# Altium schematic symbol library Resistors.SchLib: 223 symbols (part 1 of 3)
Pins are listed as number, name and electrical type; pins without a type are passive.

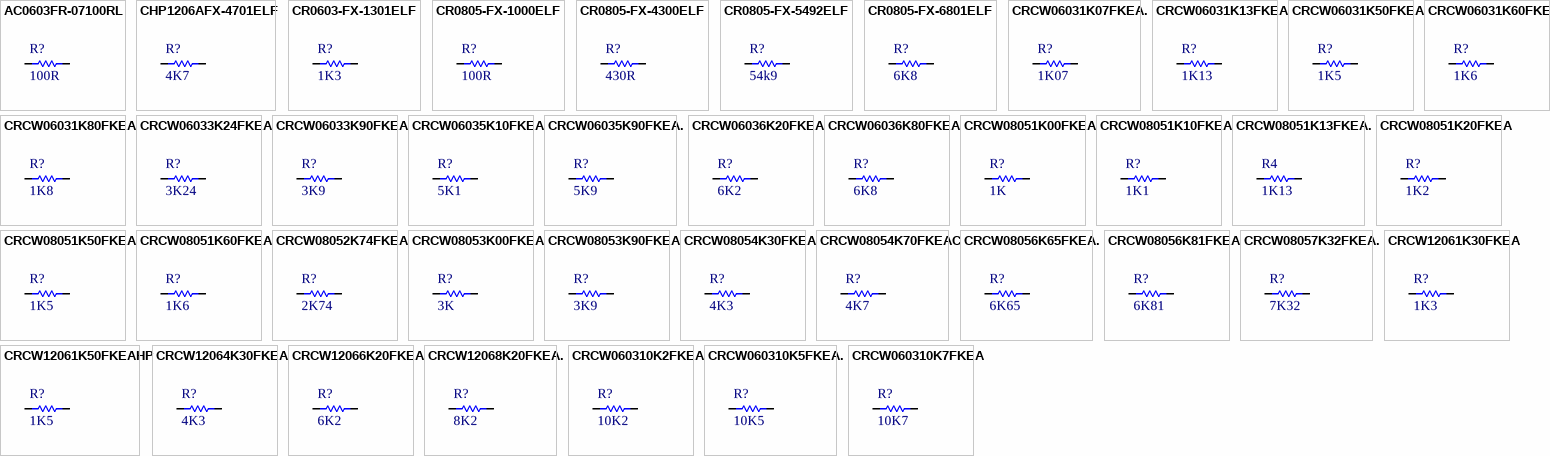
[diagram p0: symbols AC0603FR-07100RL to CRCW060310K7FKEA]

## AC0603FR-07100RL
designator R?, comment 100R
RES 100R, ±1%, 100mW, 75V, 0603 [1608 Metric], Thick Film; Manufacturer: YAGEO; Manufacturer Part Number: AC0603FR-07100RL; Temperature Coefficient: ± 100ppm/°C; Value: 100R; Supplier 1: Farnell; Supplier Part Number 1: 3495223; Tolerance: ± 1%; Power: 100mW; Voltage: 75V; Package: 0603 [1608 Metric]; Part Type: Thick Film; ComponentLink1Description: Datasheet; ComponentLink1URL: http://www.farnell.com/datasheets/3046027.pdf; Mounting: SMD
footprint RESC1608N (Chip Resistor, Body 1.6x0.8mm, IPC Medium Density)
pins: 1, 2
1 alternate drawing of the same symbol

## CHP1206AFX-4701ELF
designator R?, comment 4K7
RES 4K7, ±1%, 750mW, 250V, 1206 [3216 Metric], Thick Film; Manufacturer: Bourns; Manufacturer Part Number: CHP1206AFX-4701ELF; Temperature Coefficient: ±100 ppm/°C; Value: 4K7; Supplier 1: Mouser; Supplier Part Number 1: 652-CHP1206AFX-4701L; Tolerance: ± 1%; Power: 750mW; Voltage: 250V; Package: 1206 [3216 Metric]; Part Type: Thick Film; ComponentLink1Description: Datasheet; ComponentLink1URL: https://eu.mouser.com/datasheet/2/54/chp-a-1858677.pdf; Mounting: SMD
footprint RESC3216N (Chip Resistor, Body 3.2x1.6mm, IPC Medium Density)
pins: 1, 2
1 alternate drawing of the same symbol

## CR0603-FX-1301ELF
designator R?, comment 1K3
RES 1K3, ±1%, 100mW, 50V, 0603 [1608 Metric], Thick Film; Manufacturer: MULTICOMP; Manufacturer Part Number: CR0603-FX-1301ELF; Temperature Coefficient: ± 100ppm/°C; Value: 1K3; Supplier 1: Farnell; Supplier Part Number 1: 2908258; Tolerance: ± 1%; Power: 100mW; Voltage: 50V; Package: 0603 [1608 Metric]; Part Type: Thick Film; ComponentLink1Description: Datasheet; ComponentLink1URL: http://www.farnell.com/datasheets/2178762.pdf; Mounting: SMD
footprint RESC1608N (Chip Resistor, Body 1.6x0.8mm, IPC Medium Density)
pins: 1, 2
1 alternate drawing of the same symbol

## CR0805-FX-1000ELF
designator R?, comment 100R
RES 100R, ±1%, 125mW, 150V, 0805 [2012 Metric], Thick Film; Manufacturer: BOURNS; Manufacturer Part Number: CR0805-FX-1000ELF; Temperature Coefficient: ± 100ppm/°C; Value: 100R; Supplier 1: Farnell; Supplier Part Number 1: 2008370; Tolerance: ± 1%; Power: 125mW; Voltage: 150V; Package: 0805 [2012 Metric]; Part Type: Thick Film; ComponentLink1Description: Datasheet; ComponentLink1URL: http://www.farnell.com/datasheets/1856384.pdf; Mounting: SMD
footprint RESC2012N (Chip Resistor, Body 2.0x1.3mm, IPC Medium Density)
pins: 1, 2
1 alternate drawing of the same symbol

## CR0805-FX-4300ELF
designator R?, comment 430R
RES 430R, ±1%, 125mW, 150V, 0805 [2012 Metric], Thick Film; Manufacturer: Bourns; Manufacturer Part Number: CR0805-FX-4300ELF; Temperature Coefficient: ± 100ppm/°C; Value: 430R; Supplier 1: Mouser; Supplier Part Number 1: 652-CR0805FX-4300ELF; Tolerance: ± 1%; Power: 125mW; Voltage: 150V; Package: 0805 [2012 Metric]; Part Type: Thick Film; ComponentLink1Description: Datasheet; ComponentLink1URL: https://eu.mouser.com/datasheet/2/54/crxxxxx-1858361.pdf; Mounting: SMD
footprint RESC2012N (Chip Resistor, Body 2.0x1.3mm, IPC Medium Density)
pins: 1, 2
1 alternate drawing of the same symbol

## CR0805-FX-5492ELF
designator R?, comment 54k9
RES 54K9, ±1%, 125mW, 150V, 0805 [2012 Metric], Thick Film; Manufacturer: Bourns; Manufacturer Part Number: CR0805-FX-5492ELF; Temperature Coefficient: 100 PPM / C; Value: 54k9; Supplier 1: Mouser; Supplier Part Number 1: 652-CR0805FX-5492ELF; Tolerance: ± 1%; Power: 125mW; Voltage: 150V; Package: 0805 [2012 Metric]; Part Type: Thick Film; ComponentLink1Description: Datasheet; ComponentLink1URL: https://eu.mouser.com/datasheet/2/54/crxxxxx-1858361.pdf; Mounting: SMD
footprint RESC2012N (Chip Resistor, Body 2.0x1.3mm, IPC Medium Density)
pins: 1, 2
1 alternate drawing of the same symbol

## CR0805-FX-6801ELF
designator R?, comment 6K8
RES 6K8, ±1%, 125mW, 150V, 0805 [2012 Metric], Thick Film; Manufacturer: BOURNS; Manufacturer Part Number: CR0805-FX-6801ELF; Temperature Coefficient: ± 100ppm/°C; Value: 6K8; Supplier 1: Farnell; Supplier Part Number 1: 2908421; Tolerance: ± 1%; Power: 125mW; Voltage: 150V; Package: 0805 [2012 Metric]; Part Type: Thick Film; ComponentLink1Description: Datasheet; ComponentLink1URL: http://www.farnell.com/datasheets/2178762.pdf; Mounting: SMD
footprint RESC2012N (Chip Resistor, Body 2.0x1.3mm, IPC Medium Density)
pins: 1, 2
1 alternate drawing of the same symbol

## CRCW06031K07FKEA.
designator R?, comment 1K07
RES 1K07, ±1%, 100mW, 75V, 0603 [1608 Metric], Thick Film; Manufacturer: VISHAY; Manufacturer Part Number: CRCW06031K07FKEA.; Temperature Coefficient: ± 100ppm/K; Value: 1K07; Supplier 1: Farnell; Supplier Part Number 1: 2138352; Tolerance: ± 1%; Power: 100mW; Voltage: 75V; Package: 0603 [1608 Metric]; Part Type: Thick Film; ComponentLink1Description: Datasheet; ComponentLink1URL: http://www.farnell.com/datasheets/2310790.pdf; Mounting: SMD
footprint RESC1608N (Chip Resistor, Body 1.6x0.8mm, IPC Medium Density)
pins: 1, 2
1 alternate drawing of the same symbol

## CRCW06031K13FKEA
designator R?, comment 1K13
RES 1K13, ±1%, 100mW, 75V, 0603 [1608 Metric], Thick Film; Manufacturer: VISHAY; Manufacturer Part Number: CRCW06031K13FKEA; Temperature Coefficient: ± 100ppm/K; Value: 1K13; Supplier 1: Farnell; Supplier Part Number 1: 2138354; Tolerance: ± 1%; Power: 100mW; Voltage: 75V; Package: 0603 [1608 Metric]; Part Type: Thick Film; ComponentLink1Description: Datasheet; ComponentLink1URL: http://www.farnell.com/datasheets/2310790.pdf; Mounting: SMD
footprint RESC1608N (Chip Resistor, Body 1.6x0.8mm, IPC Medium Density)
pins: 1, 2
1 alternate drawing of the same symbol

## CRCW06031K50FKEA
designator R?, comment 1K5
RES 1K5, ±1%, 100mW, 75V, 0603 [1608 Metric], Thick Film; Manufacturer: VISHAY; Manufacturer Part Number: CRCW06031K50FKEA; Temperature Coefficient: ± 100ppm/K; Value: 1K5; Supplier 1: Farnell; Supplier Part Number 1: 1469743; Tolerance: ± 1%; Power: 100mW; Voltage: 75V; Package: 0603 [1608 Metric]; Part Type: Thick Film; ComponentLink1Description: Datasheet; ComponentLink1URL: http://www.farnell.com/datasheets/2310790.pdf; Mounting: SMD
footprint RESC1608N (Chip Resistor, Body 1.6x0.8mm, IPC Medium Density)
pins: 1, 2
1 alternate drawing of the same symbol

## CRCW06031K60FKEA
designator R?, comment 1K6
RES 1K6, ±1%, 100mW, 75V, 0603 [1608 Metric], Thick Film; Manufacturer: VISHAY; Manufacturer Part Number: CRCW06031K60FKEA.; Temperature Coefficient: ± 100ppm/K; Value: 1K6; Supplier 1: Farnell; Supplier Part Number 1: 2138367; Tolerance: ± 1%; Power: 100mW; Voltage: 75V; Package: 0603 [1608 Metric]; Part Type: Thick Film; ComponentLink1Description: Datasheet; ComponentLink1URL: http://www.farnell.com/datasheets/2310790.pdf; Mounting: SMD
footprint RESC1608N (Chip Resistor, Body 1.6x0.8mm, IPC Medium Density)
pins: 1, 2
1 alternate drawing of the same symbol

## CRCW06031K80FKEA
designator R?, comment 1K8
RES 1K8, ±1%, 100mW, 100V, 0603 [1608 Metric], Thick Film; Manufacturer: VISHAY; Manufacturer Part Number: CRCW06031K80FKEA; Voltage: 75V; Temperature Coefficient: ± 100ppm/K; Value: 1K8; Supplier 1: Farnell; Supplier Part Number 1: 1652854; Tolerance: ± 1%; Power: 100mW; Package: 0603 [1608 Metric]; Part Type: Thick Film; ComponentLink1Description: Datasheet; ComponentLink1URL: http://www.farnell.com/datasheets/2310790.pdf; Mounting: SMD
footprint RESC1608N (Chip Resistor, Body 1.6x0.8mm, IPC Medium Density)
pins: 1, 2
1 alternate drawing of the same symbol

## CRCW06033K24FKEA
designator R?, comment 3K24
RES 3K24, ±1%, 100mW, 75V, 0603 [1608 Metric], Thick Film; Manufacturer: VISHAY; Manufacturer Part Number: CRCW06033K24FKEA; Temperature Coefficient: ± 100ppm/K; Value: 3K24; Supplier 1: Farnell; Supplier Part Number 1: 1652877; Tolerance: ± 1%; Power: 100mW; Voltage: 75V; Package: 0603 [1608 Metric]; Part Type: Thick Film; ComponentLink1Description: Datasheet; ComponentLink1URL: http://www.farnell.com/datasheets/2310790.pdf; Mounting: SMD
footprint RESC1608N (Chip Resistor, Body 1.6x0.8mm, IPC Medium Density)
pins: 1, 2
1 alternate drawing of the same symbol

## CRCW06033K90FKEA
designator R?, comment 3K9
RES 3K9, ±1%, 100mW, 75V, 0603 [1608 Metric], Thick Film; Manufacturer: VISHAY; Manufacturer Part Number: CRCW06033K90FKEA; Temperature Coefficient: ± 100ppm/K; Value: 3K9; Supplier 1: Farnell; Supplier Part Number 1: 1469796; Tolerance: ± 1%; Power: 100mW; Voltage: 75V; Package: 0603 [1608 Metric]; Part Type: Thick Film; ComponentLink1Description: Datasheet; ComponentLink1URL: http://www.farnell.com/datasheets/2310790.pdf; Mounting: SMD
footprint RESC1608N (Chip Resistor, Body 1.6x0.8mm, IPC Medium Density)
pins: 1, 2
1 alternate drawing of the same symbol

## CRCW06035K10FKEA
designator R?, comment 5K1
RES 5K1, ±1%, 100mW, 75V, 0603 [1608 Metric], Thick Film; Manufacturer: VISHAY; Manufacturer Part Number: CRCW06035K10FKEA; Temperature Coefficient: ± 100ppm/K; Value: 5K1; Supplier 1: Farnell; Supplier Part Number 1: 1469819; Tolerance: ± 1%; Power: 100mW; Voltage: 75V; Package: 0603 [1608 Metric]; Part Type: Thick Film; ComponentLink1Description: Datasheet; ComponentLink1URL: http://www.farnell.com/datasheets/2310790.pdf; Mounting: SMD
footprint RESC1608N (Chip Resistor, Body 1.6x0.8mm, IPC Medium Density)
pins: 1, 2
1 alternate drawing of the same symbol

## CRCW06035K90FKEA.
designator R?, comment 5K9
RES 5K9, ±1%, 100mW, 75V, 0603 [1608 Metric], Thick Film; Manufacturer: VISHAY; Manufacturer Part Number: CRCW06035K90FKEA; Temperature Coefficient: ± 100ppm/K; Value: 5K9; Supplier 1: Farnell; Supplier Part Number 1: 2138407; Tolerance: ± 1%; Power: 100mW; Voltage: 75V; Package: 0603 [1608 Metric]; Part Type: Thick Film; ComponentLink1Description: Datasheet; ComponentLink1URL: http://www.farnell.com/datasheets/2310790.pdf; Mounting: SMD
footprint RESC1608N (Chip Resistor, Body 1.6x0.8mm, IPC Medium Density)
pins: 1, 2
1 alternate drawing of the same symbol

## CRCW06036K20FKEA
designator R?, comment 6K2
RES 6K2, ±1%, 100mW, 75V, 0603 [1608 Metric], Thick Film; Manufacturer: VISHAY; Manufacturer Part Number: CRCW06036K20FKEA; Temperature Coefficient: ± 100ppm/K; Value: 6K2; Supplier 1: Farnell; Supplier Part Number 1: 2138408; Tolerance: ± 1%; Power: 100mW; Voltage: 75V; Package: 0603 [1608 Metric]; Part Type: Thick Film; ComponentLink1Description: Datasheet; ComponentLink1URL: http://www.farnell.com/datasheets/2310790.pdf; Mounting: SMD
footprint RESC1608N (Chip Resistor, Body 1.6x0.8mm, IPC Medium Density)
pins: 1, 2
1 alternate drawing of the same symbol

## CRCW06036K80FKEA
designator R?, comment 6K8
RES 6K8, ±1%, 100mW, 75V, 0603 [1608 Metric], Thick Film; Manufacturer: VISHAY; Manufacturer Part Number: CRCW06036K80FKEA; Temperature Coefficient: ± 100ppm/K; Value: 6K8; Supplier 1: Farnell; Supplier Part Number 1: 1469831; Tolerance: ± 1%; Power: 100mW; Voltage: 75V; Package: 0603 [1608 Metric]; Part Type: Thick Film; ComponentLink1Description: Datasheet; ComponentLink1URL: http://www.farnell.com/datasheets/2310790.pdf; Mounting: SMD
footprint RESC1608N (Chip Resistor, Body 1.6x0.8mm, IPC Medium Density)
pins: 1, 2
1 alternate drawing of the same symbol

## CRCW08051K00FKEA
designator R?, comment 1K
RES 1K, ±1%, 125mW, 150V, 0805 [2012 Metric], Thick Film; Manufacturer: VISHAY; Manufacturer Part Number: CRCW08051K00FKEA; Temperature Coefficient: ± 100ppm/K; Value: 1K; Supplier 1: Farnell; Supplier Part Number 1: 1469847; Tolerance: ± 1%; Power: 125mW; Voltage: 150V; Package: 0805 [2012 Metric]; Part Type: Thick Film; ComponentLink1Description: Datasheet; ComponentLink1URL: http://www.farnell.com/datasheets/2310790.pdf; Mounting: SMD
footprint RESC2012N (Chip Resistor, Body 2.0x1.3mm, IPC Medium Density)
pins: 1, 2
1 alternate drawing of the same symbol

## CRCW08051K10FKEA
designator R?, comment 1K1
RES 1K1, ±1%, 125mW, 150V, 0805 [2012 Metric], Thick Film; Manufacturer: VISHAY; Manufacturer Part Number: CRCW08051K10FKEA; Temperature Coefficient: ± 100ppm/K; Value: 1K1; Supplier 1: Farnell; Supplier Part Number 1: 1469849; Tolerance: ± 1%; Power: 125mW; Voltage: 150V; Package: 0805 [2012 Metric]; Part Type: Thick Film; ComponentLink1Description: Datasheet; ComponentLink1URL: http://www.farnell.com/datasheets/2310790.pdf; Mounting: SMD
footprint RESC2012N (Chip Resistor, Body 2.0x1.3mm, IPC Medium Density)
pins: 1, 2
1 alternate drawing of the same symbol

## CRCW08051K13FKEA.
designator R4, comment 1K13
RES 1K13, ±1%, 125mW, 150V, 0805 [2012 Metric], Thick Film; Manufacturer: VISHAY; Manufacturer Part Number: CRCW08051K13FKEA.; Temperature Coefficient: ± 100ppm/K; Value: 1K13; Supplier 1: Farnell; Supplier Part Number 1: 2138926; Tollerance: ± 1%; Power: 125mW; Voltage: 150V; Package: 0805 [2012 Metric]; Part Type: Thick Film; ComponentLink1Description: Datasheet; ComponentLink1URL: https://lt.farnell.com/vishay/crcw08051k13fkea/res-1k13-1-0-125w-0805-thick-film/dp/2138926?st=res%201.13k,%20±1%25,%20125mw,%20150v,%200805%20[2012%20metric],%20thick%20film; Mounting: SMD
footprint RESC2012N (Chip Resistor, Body 2.0x1.3mm, IPC Medium Density)
pins: 1, 2
1 alternate drawing of the same symbol

## CRCW08051K20FKEA
designator R?, comment 1K2
RES 1K2, ±1%, 125mW, 150V, 0805 [2012 Metric], Thick Film; Manufacturer: VISHAY; Manufacturer Part Number: CRCW08051K20FKEA; Temperature Coefficient: ± 100ppm/K; Value: 1K2; Supplier 1: Farnell; Supplier Part Number 1: 1469851; Tollerance: ± 1%; Power: 125mW; Voltage: 150V; Package: 0805 [2012 Metric]; Part Type: Thick Film; ComponentLink1Description: Datasheet; ComponentLink1URL: https://lt.farnell.com/vishay/crcw08051k20fkea/res-1k2-1-0-125w-0805-thick-film/dp/1469851?st=1.2k; Mounting: SMD
footprint RESC2012N (Chip Resistor, Body 2.0x1.3mm, IPC Medium Density)
pins: 1, 2
1 alternate drawing of the same symbol

## CRCW08051K50FKEA
designator R?, comment 1K5
RES 1K5, ±1%, 125mW, 150V, 0805 [2012 Metric], Thick Film; Manufacturer: VISHAY; Manufacturer Part Number: CRCW08051K50FKEA; Temperature Coefficient: ± 100ppm/K; Value: 1K5; Supplier 1: Farnell; Supplier Part Number 1: 1652940; Tolerance: ± 1%; Power: 125mW; Voltage: 150V; Package: 0805 [2012 Metric]; Part Type: Thick Film; ComponentLink1Description: Datasheet; ComponentLink1URL: http://www.farnell.com/datasheets/2310790.pdf; Mounting: SMD
footprint RESC2012N (Chip Resistor, Body 2.0x1.3mm, IPC Medium Density)
pins: 1, 2
1 alternate drawing of the same symbol

## CRCW08051K60FKEA
designator R?, comment 1K6
RES 1K6, ±1%, 125mW, 150V, 0805 [2012 Metric], Thick Film; Manufacturer: VISHAY; Manufacturer Part Number: CRCW08051K60FKA; Temperature Coefficient: ± 100ppm/K; Value: 1K6; Supplier 1: Farnell; Supplier Part Number 1: 2138937; Tolerance: ± 1%; Power: 125mW; Voltage: 150V; Package: 0805 [2012 Metric]; Part Type: Thick Film; ComponentLink1Description: Datasheet; ComponentLink1URL: http://www.farnell.com/datasheets/2310790.pdf; Mounting: SMD
footprint RESC2012N (Chip Resistor, Body 2.0x1.3mm, IPC Medium Density)
pins: 1, 2
1 alternate drawing of the same symbol

## CRCW08052K74FKEA
designator R?, comment 2K74
RES 2K74, ±1%, 125mW, 150V, 0805 [2012 Metric], Thick Film; Manufacturer: VISHAY; Manufacturer Part Number: CRCW08052K74FKEA; Temperature Coefficient: ± 100ppm/K; Value: 2K74; Supplier 1: Farnell; Supplier Part Number 1: 1469892; Tolerance: ± 1%; Power: 125mW; Voltage: 150V; Package: 0805 [2012 Metric]; Part Type: Thick Film; ComponentLink1Description: Datasheet; ComponentLink1URL: http://www.farnell.com/datasheets/2310790.pdf; Mounting: SMD
footprint RESC2012N (Chip Resistor, Body 2.0x1.3mm, IPC Medium Density)
pins: 1, 2
1 alternate drawing of the same symbol

## CRCW08053K00FKEA
designator R?, comment 3K
RES 3K, ±1%, 125mW, 150V, 0805 [2012 Metric], Thick Film; Manufacturer: VISHAY; Manufacturer Part Number: CRCW08053K00FKEA; Temperature Coefficient: ± 100ppm/K; Value: 3K; Supplier 1: Farnell; Supplier Part Number 1: 1469908; Tolerance: ± 1%; Power: 125mW; Voltage: 150V; Package: 0805 [2012 Metric]; Part Type: Thick Film; ComponentLink1Description: Datasheet; ComponentLink1URL: http://www.farnell.com/datasheets/2310790.pdf; Mounting: SMD
footprint RESC2012N (Chip Resistor, Body 2.0x1.3mm, IPC Medium Density)
pins: 1, 2
1 alternate drawing of the same symbol

## CRCW08053K90FKEA
designator R?, comment 3K9
RES 3K9, ±1%, 125mW, 150V, 0805 [2012 Metric], Thick Film; Manufacturer: VISHAY; Manufacturer Part Number: CRCW08053K90FKEA; Temperature Coefficient: ± 100ppm/K; Value: 3K9; Supplier 1: Farnell; Supplier Part Number 1: 1652998; Tolerance: ± 1%; Power: 125mW; Voltage: 150V; Package: 0805 [2012 Metric]; Part Type: Thick Film; ComponentLink1Description: Datasheet; ComponentLink1URL: http://www.farnell.com/datasheets/2310790.pdf; Mounting: SMD
footprint RESC2012N (Chip Resistor, Body 2.0x1.3mm, IPC Medium Density)
pins: 1, 2
1 alternate drawing of the same symbol

## CRCW08054K30FKEA
designator R?, comment 4K3
RES 4K3, ±1%, 125mW, 150V, 0805 [2012 Metric], Thick Film; Manufacturer: VISHAY; Manufacturer Part Number: CRCW08054K30FKEA; Temperature Coefficient: ± 100ppm/K; Value: 4K3; Supplier 1: Farnell; Supplier Part Number 1: 2138959; Tolerance: ± 1%; Power: 125mW; Voltage: 150V; Package: 0805 [2012 Metric]; Part Type: Thick Film; ComponentLink1Description: Datasheet; ComponentLink1URL: http://www.farnell.com/datasheets/2310790.pdf; Mounting: SMD
footprint RESC2012N (Chip Resistor, Body 2.0x1.3mm, IPC Medium Density)
pins: 1, 2
1 alternate drawing of the same symbol

## CRCW08054K70FKEAC
designator R?, comment 4K7
RES 4K7, ±1%, 125mW, 150V, 0805 [2012 Metric], Thick Film; Manufacturer: Vishay / Dale; Manufacturer Part Number: CRCW08054K70FKEAC; Temperature Coefficient: ±100 ppm/K; Value: 4K7; Supplier 1: Mouser; Supplier Part Number 1: 71-CRCW08054K70FKEAC; Tolerance: ± 1%; Power: 125mW; Voltage: 150V; Package: 0805 [2012 Metric]; Part Type: Thick Film; ComponentLink1Description: Datasheet; ComponentLink1URL: https://eu.mouser.com/datasheet/2/427/crcwce3-1762584.pdf; Mounting: SMD
footprint RESC2012N (Chip Resistor, Body 2.0x1.3mm, IPC Medium Density)
pins: 1, 2
1 alternate drawing of the same symbol

## CRCW08056K65FKEA.
designator R?, comment 6K65
RES 6K65, ±1%, 125mW, 150V, 0805 [2012 Metric], Thick Film; Manufacturer: VISHAY; Manufacturer Part Number: CRCW08056K65FKEA.; Temperature Coefficient: ± 100ppm/K; Value: 6K65; Supplier 1: Farnell; Supplier Part Number 1: 2138965; Tolerance: ± 1%; Power: 125mW; Voltage: 150V; Package: 0805 [2012 Metric]; Part Type: Thick Film; ComponentLink1Description: Datasheet; ComponentLink1URL: http://www.farnell.com/datasheets/2310790.pdf; Mounting: SMD
footprint RESC2012N (Chip Resistor, Body 2.0x1.3mm, IPC Medium Density)
pins: 1, 2
1 alternate drawing of the same symbol

## CRCW08056K81FKEA
designator R?, comment 6K81
RES 6K81, ±1%, 125mW, 150V, 0805 [2012 Metric], Thick Film; Manufacturer: VISHAY; Manufacturer Part Number: CRCW08056K81FKEA; Temperature Coefficient: 100ppm/K; Value: 6K81; Supplier 1: Farnell; Supplier Part Number 1: 1469950; Tollerance: 1%; Power: 125mW; Voltage: 150V; Package: 0805 [2012 Metric]; Part Type: Thick Film; ComponentLink1Description: Datasheet; ComponentLink1URL: https://lt.farnell.com/vishay/crcw08056k81fkea/res-6k81-1-0-125w-0805-thick-film/dp/1469950?st=res%206k81,%20±1%25,%20125mw,%20150v,%200805%20[2012%20metric],%20thick%20film; Mounting: SMD
footprint RESC2012N (Chip Resistor, Body 2.0x1.3mm, IPC Medium Density)
pins: 1, 2
1 alternate drawing of the same symbol

## CRCW08057K32FKEA.
designator R?, comment 7K32
RES 7K320, ±1%, 125mW, 150V, 0805 [2012 Metric], Thick Film; Manufacturer: VISHAY; Manufacturer Part Number: CRCW08057K32FKEA.; Temperature Coefficient: ± 100ppm/K; Value: 7K32; Supplier 1: Farnell; Supplier Part Number 1: 2138968; Tollerance: ± 1%; Power: 125mW; Voltage: 150V; Package: 0805 [2012 Metric]; Part Type: Thick Film; ComponentLink1Description: Datasheet; ComponentLink1URL: http://www.farnell.com/datasheets/2310790.pdf; Mounting: SMD
footprint RESC2012N (Chip Resistor, Body 2.0x1.3mm, IPC Medium Density)
pins: 1, 2
1 alternate drawing of the same symbol

## CRCW12061K30FKEA
designator R?, comment 1K3
RES 1K3, ±1%, 250mW, 200V, 1206 [3216 Metric], Thick Film; Manufacturer: MULTICOMP; Manufacturer Part Number: CRCW12061K30FKEA; Temperature Coefficient: ± 100ppm/K; Value: 1K3; Supplier 1: Farnell; Supplier Part Number 1: 1653079; Tolerance: ± 1%; Power: 250mW; Voltage: 200V; Package: 1206 [3216 Metric]; Part Type: Thick Film; ComponentLink1Description: Datasheet; ComponentLink1URL: http://www.farnell.com/datasheets/2310790.pdf; Mounting: SMD
footprint RESC3216N (Chip Resistor, Body 3.2x1.6mm, IPC Medium Density)
pins: 1, 2
1 alternate drawing of the same symbol

## CRCW12061K50FKEAHP
designator R?, comment 1K5
RES 1K5, ±1%, 750mW, 200V, 1206 [3216 Metric], Thick Film; Manufacturer: VISHAY; Manufacturer Part Number: CRCW12061K50FKEAHP; Power: 250mW; Temperature Coefficient: ± 100ppm/K; Value: 1K5; Supplier 1: Farnell; Supplier Part Number 1: 1739015; Tolerance: ± 1%; Voltage: 200V; Package: 1206 [3216 Metric]; Part Type: Thick Film; ComponentLink1Description: Datasheet; ComponentLink1URL: http://www.farnell.com/datasheets/2884039.pdf; Mounting: SMD
footprint RESC3216N (Chip Resistor, Body 3.2x1.6mm, IPC Medium Density)
pins: 1, 2
1 alternate drawing of the same symbol

## CRCW12064K30FKEA
designator R?, comment 4K3
RES 4K3, ±1%, 250mW, 200V, 1206 [3216 Metric], Thick Film; Manufacturer: VISHAY; Manufacturer Part Number: CRCW12064K30FKEA; Temperature Coefficient: ± 100ppm/K; Value: 4K3; Supplier 1: Farnell; Supplier Part Number 1: 1653140; Tolerance: ± 1%; Power: 250mW; Voltage: 200V; Package: 1206 [3216 Metric]; Part Type: Thick Film; ComponentLink1Description: Datasheet; ComponentLink1URL: http://www.farnell.com/datasheets/2310790.pdf; Mounting: SMD
footprint RESC3216N (Chip Resistor, Body 3.2x1.6mm, IPC Medium Density)
pins: 1, 2
1 alternate drawing of the same symbol

## CRCW12066K20FKEA
designator R?, comment 6K2
RES 6K2, ±1%, 250mW, 200V, 1206 [3216 Metric], Thick Film; Manufacturer: VISHAY; Manufacturer Part Number: CRCW12066K20FKEA; Temperature Coefficient: ± 100ppm/K; Value: 6K2; Supplier 1: Farnell; Supplier Part Number 1: 2139493; Tolerance: ± 1%; Power: 250mW; Voltage: 200V; Package: 1206 [3216 Metric]; Part Type: Thick Film; ComponentLink1Description: Datasheet; ComponentLink1URL: http://www.farnell.com/datasheets/2310790.pdf; Mounting: SMD
footprint RESC3216N (Chip Resistor, Body 3.2x1.6mm, IPC Medium Density)
pins: 1, 2
1 alternate drawing of the same symbol

## CRCW12068K20FKEA.
designator R?, comment 8K2
RES 8K2, ±1%, 250mW, 200V, 1206 [3216 Metric], Thick Film; Manufacturer: VISHAY; Manufacturer Part Number: CRCW12068K20FKEA.; Temperature Coefficient: ± 100ppm/°C; Value: 8K2; Supplier 1: Farnell; Supplier Part Number 1: 2139502; Tolerance: ± 1%; Power: 250mW; Voltage: 200V; Package: 1206 [3216 Metric]; Part Type: Thick Film; ComponentLink1Description: Datasheet; ComponentLink1URL: http://www.farnell.com/datasheets/2310790.pdf; Mounting: SMD
footprint RESC3216N (Chip Resistor, Body 3.2x1.6mm, IPC Medium Density)
pins: 1, 2
1 alternate drawing of the same symbol

## CRCW060310K2FKEA
designator R?, comment 10K2
RES 10K2, ±1%, 125mW, 75V, 0603 [1608 Metric], Thick Film; Manufacturer: VISHAY; Manufacturer Part Number: CRCW060310K2FKEA; Power: 100mW; Temperature Coefficient: ± 100ppm/K; Value: 10K2; Supplier 1: Farnell; Supplier Part Number 1: 1652829; Tolerance: ± 1%; Voltage: 75V; Package: 0603 [1608 Metric]; Part Type: Thick Film; ComponentLink1Description: Datasheet; ComponentLink1URL: http://www.farnell.com/datasheets/2310790.pdf; Mounting: SMD
footprint RESC1608N (Chip Resistor, Body 1.6x0.8mm, IPC Medium Density)
pins: 1, 2
1 alternate drawing of the same symbol

## CRCW060310K5FKEA.
designator R?, comment 10K5
RES 10K5, ±1%, 100mW, 75V, 0603 [1608 Metric], Thick Film; Manufacturer: VISHAY; Manufacturer Part Number: CRCW060310K5FKEA.; Temperature Coefficient: ± 100ppm/K; Value: 10K5; Supplier 1: Farnell; Supplier Part Number 1: 2138423; Tollerance: ± 1%; Power: 100mW; Voltage: 75V; Package: 0603 [1608 Metric]; Part Type: Thick Film; ComponentLink1Description: Datasheet; ComponentLink1URL: http://www.farnell.com/datasheets/2310790.pdf; Mounting: SMD
footprint RESC1608N (Chip Resistor, Body 1.6x0.8mm, IPC Medium Density)
pins: 1, 2
1 alternate drawing of the same symbol

## CRCW060310K7FKEA
designator R?, comment 10K7
RES 10K7, ±1%, 100mW, 75V, 0603 [1608 Metric], Thick Film; Manufacturer: VISHAY; Manufacturer Part Number: CRCW060310K7FKEA; Temperature Coefficient: ± 100ppm/K; Value: 10K7; Supplier 1: Farnell; Supplier Part Number 1: 1652830; Tollerance: ± 1%; Power: 100mW; Voltage: 75V; Package: 0603 [1608 Metric]; Part Type: Thick Film; ComponentLink1Description: Datasheet; ComponentLink1URL: http://www.farnell.com/datasheets/2310790.pdf; Mounting: SMD
footprint RESC1608N (Chip Resistor, Body 1.6x0.8mm, IPC Medium Density)
pins: 1, 2
1 alternate drawing of the same symbol

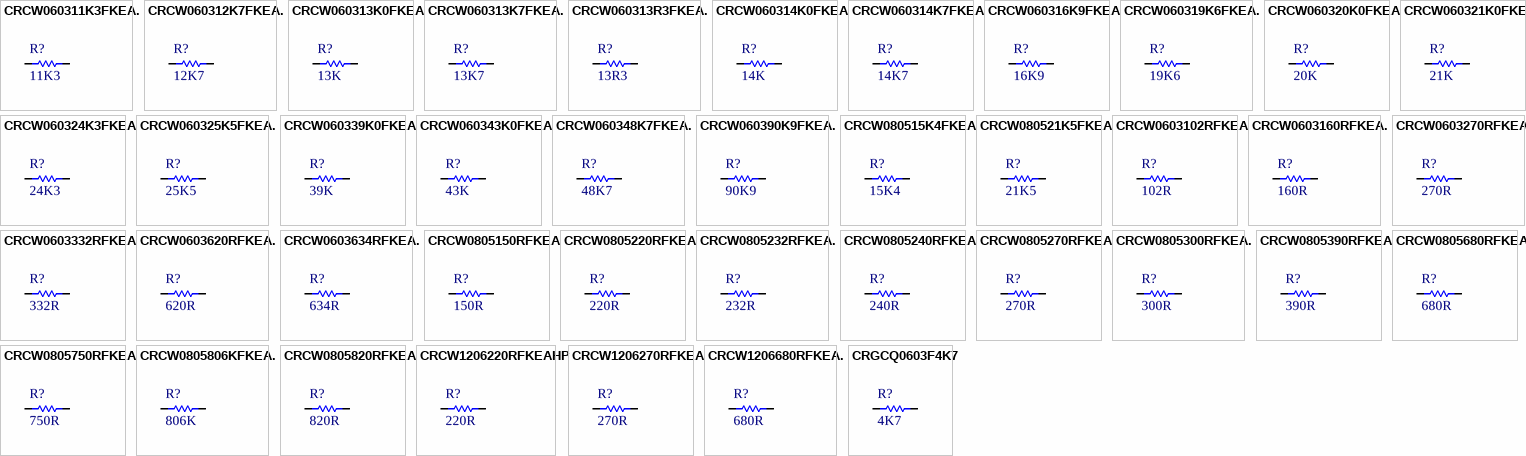
[diagram p1: symbols CRCW060311K3FKEA. to CRGCQ0603F4K7]

## CRCW060311K3FKEA.
designator R?, comment 11K3
RES 11K3, ±1%, 100mW, 75V, 0603 [1608 Metric], Thick Film; Manufacturer: VISHAY; Manufacturer Part Number: CRCW060311K3FKEA.; Temperature Coefficient: ± 100ppm/K; Value: 11K3; Supplier 1: Farnell; Supplier Part Number 1: 2138425; Tolerance: ± 1%; Power: 100mW; Voltage: 75V; Package: 0603 [1608 Metric]; Part Type: Thick Film; ComponentLink1Description: Datasheet; ComponentLink1URL: http://www.farnell.com/datasheets/2310790.pdf; Mounting: SMD
footprint RESC1608N (Chip Resistor, Body 1.6x0.8mm, IPC Medium Density)
pins: 1, 2
1 alternate drawing of the same symbol

## CRCW060312K7FKEA.
designator R?, comment 12K7
RES 12K7, ±1%, 100mW, 75V, 0603 [1608 Metric], Thick Film; Manufacturer: VISHAY; Manufacturer Part Number: CRCW060312K7FKEA.; Temperature Coefficient: ± 100ppm/K; Value: 12K7; Supplier 1: Farnell; Supplier Part Number 1: 2138428; Tolerance: ± 1%; Power: 100mW; Voltage: 75V; Package: 0603 [1608 Metric]; Part Type: Thick Film; ComponentLink1Description: Datasheet; ComponentLink1URL: http://www.farnell.com/datasheets/2310790.pdf; Mounting: SMD
footprint RESC1608N (Chip Resistor, Body 1.6x0.8mm, IPC Medium Density)
pins: 1, 2
1 alternate drawing of the same symbol

## CRCW060313K0FKEA
designator R?, comment 13K
RES 13K, ±1%, 100mW, 75V, 0603 [1608 Metric], Thick Film; Manufacturer: VISHAY; Manufacturer Part Number: CRCW060313K0FKEA; Temperature Coefficient: ± 100ppm/K; Value: 13K; Supplier 1: Farnell; Supplier Part Number 1: 1652839; Tolerance: ± 1%; Power: 100mW; Voltage: 75V; Package: 0603 [1608 Metric]; Part Type: Thick Film; ComponentLink1Description: Datasheet; ComponentLink1URL: http://www.farnell.com/datasheets/2310790.pdf; Mounting: SMD
footprint RESC1608N (Chip Resistor, Body 1.6x0.8mm, IPC Medium Density)
pins: 1, 2
1 alternate drawing of the same symbol

## CRCW060313K7FKEA.
designator R?, comment 13K7
RES 13K7, ±1%, 100mW, 75V, 0603 [1608 Metric], Thick Film; Manufacturer: VISHAY; Manufacturer Part Number: CRCW060313K7FKEA.; Temperature Coefficient: ± 100ppm/K; Value: 13K7; Supplier 1: Farnell; Supplier Part Number 1: 2138429; Tolerance: ± 1%; Power: 100mW; Voltage: 75V; Package: 0603 [1608 Metric]; Part Type: Thick Film; ComponentLink1Description: Datasheet; ComponentLink1URL: http://www.farnell.com/datasheets/2310790.pdf; Mounting: SMD
footprint RESC1608N (Chip Resistor, Body 1.6x0.8mm, IPC Medium Density)
pins: 1, 2
1 alternate drawing of the same symbol

## CRCW060313R3FKEA.
designator R?, comment 13R3
RES 13R3, ±1%, 100mW, 75V, 0603 [1608 Metric], Thick Film; Manufacturer: VISHAY; Manufacturer Part Number: CRCW060313R3FKEA.; Temperature Coefficient: ± 100ppm/K; Value: 13R3; Supplier 1: Farnell; Supplier Part Number 1: 2141178; Tollerance: ± 1%; Power: 100mW; Voltage: 75V; Package: 0603 [1608 Metric]; Part Type: Thick Film; ComponentLink1Description: Datasheet; ComponentLink1URL: http://www.farnell.com/datasheets/2310790.pdf; Mounting: SMD
footprint RESC1608N (Chip Resistor, Body 1.6x0.8mm, IPC Medium Density)
pins: 1, 2
1 alternate drawing of the same symbol

## CRCW060314K0FKEA
designator R?, comment 14K
RES 14K, ±1%, 100mW, 75V, 0603 [1608 Metric], Thick Film; Manufacturer: VISHAY; Manufacturer Part Number: CRCW060314K0FKEA; Temperature Coefficient: ± 100ppm/K; Value: 14K; Supplier 1: Farnell; Supplier Part Number 1: 1469755; Tolerance: ± 1%; Power: 100mW; Voltage: 75V; Package: 0603 [1608 Metric]; Part Type: Thick Film; ComponentLink1Description: Datasheet; ComponentLink1URL: http://www.farnell.com/datasheets/2310790.pdf; Mounting: SMD
footprint RESC1608N (Chip Resistor, Body 1.6x0.8mm, IPC Medium Density)
pins: 1, 2
1 alternate drawing of the same symbol

## CRCW060314K7FKEA
designator R?, comment 14K7
RES 14K7, ±1%, 100mW, 75V, 0603 [1608 Metric], Thick Film; Manufacturer: VISHAY; Manufacturer Part Number: CRCW060314K7FKEA; Temperature Coefficient: ± 100ppm/K; Value: 14K7; Supplier 1: Farnell; Supplier Part Number 1: 1469756; Tolerance: ± 1%; Power: 100mW; Voltage: 75V; Package: 0603 [1608 Metric]; Part Type: Thick Film; ComponentLink1Description: Datasheet; ComponentLink1URL: http://www.farnell.com/datasheets/2310790.pdf; Mounting: SMD
footprint RESC1608N (Chip Resistor, Body 1.6x0.8mm, IPC Medium Density)
pins: 1, 2
1 alternate drawing of the same symbol

## CRCW060316K9FKEA
designator R?, comment 16K9
RES 16K9, ±1%, 100mW, 0603 [1608 Metric], Thick Film; Manufacturer: VISHAY; Manufacturer Part Number: CRCW060316K9FKEA.; Voltage: 75V; Temperature Coefficient: ± 100ppm/°C; Value: 16K9; Supplier 1: Farnell; Supplier Part Number 1: 2138435; Tolerance: ± 1%; Power: 100mW; Package: 0603 [1608 Metric]; Part Type: Thick Film; ComponentLink1Description: Datasheet; ComponentLink1URL: http://www.farnell.com/datasheets/2310790.pdf; Mounting: SMD
footprint RESC1608N (Chip Resistor, Body 1.6x0.8mm, IPC Medium Density)
pins: 1, 2
1 alternate drawing of the same symbol

## CRCW060319K6FKEA.
designator R?, comment 19K6
RES 19K6, ±1%, 100mW, 75V, 0603 [1608 Metric], Thick Film; Manufacturer: VISHAY; Manufacturer Part Number: CRCW060319K6FKEA.; Temperature Coefficient: ± 100ppm/K; Value: 19K6; Supplier 1: Farnell; Supplier Part Number 1: 2138442; Tolerance: ± 1%; Power: 100mW; Voltage: 75V; Package: 0603 [1608 Metric]; Part Type: Thick Film; ComponentLink1Description: Datasheet; ComponentLink1URL: http://www.farnell.com/datasheets/2310790.pdf; Mounting: SMD
footprint RESC1608N (Chip Resistor, Body 1.6x0.8mm, IPC Medium Density)
pins: 1, 2
1 alternate drawing of the same symbol

## CRCW060320K0FKEA
designator R?, comment 20K
RES 20K, ±1%, 100 mW, 0603 [1608 Metric], Thick Film; Manufacturer: VISHAY; Manufacturer Part Number: CRCW060320K0FKEA; Power: 100mW; Voltage: 75V; Temperature Coefficient: ± 100ppm/K; Value: 20K; Supplier 1: Farnell; Supplier Part Number 1: 1469774; Tolerance: ± 1%; Package: 0603 [1608 Metric]; Part Type: Thick Film; ComponentLink1Description: Datasheet; ComponentLink1URL: http://www.farnell.com/datasheets/2310790.pdf; Mounting: SMD
footprint RESC1608N (Chip Resistor, Body 1.6x0.8mm, IPC Medium Density)
pins: 1, 2
1 alternate drawing of the same symbol

## CRCW060321K0FKEA
designator R?, comment 21K
RES 21K, ±1%, 100 mW, 0603 [1608 Metric], Thick Film; Manufacturer: VISHAY; Manufacturer Part Number: CRCW060321K0FKEA; Power: 100mW; Voltage: 75V; Temperature Coefficient: ± 100ppm/K; Value: 21K; Supplier 1: Farnell; Supplier Part Number 1: 2138443; Tolerance: ± 1%; Package: 0603 [1608 Metric]; Part Type: Thick Film; ComponentLink1Description: Datasheet; ComponentLink1URL: http://www.farnell.com/datasheets/2310790.pdf; Mounting: SMD
footprint RESC1608N (Chip Resistor, Body 1.6x0.8mm, IPC Medium Density)
pins: 1, 2
1 alternate drawing of the same symbol

## CRCW060324K3FKEA
designator R?, comment 24K3
RES 24K3, ±1%, 100mW, 75V, 0603 [1608 Metric], Thick Film; Manufacturer: VISHAY; Manufacturer Part Number: CRCW060324K3FKEA; Temperature Coefficient: ± 100ppm/K; Value: 24K3; Supplier 1: Farnell; Supplier Part Number 1: 2138446; Tolerance: ± 1%; Power: 100mW; Voltage: 75V; Package: 0603 [1608 Metric]; Part Type: Thick Film; ComponentLink1Description: Datasheet; ComponentLink1URL: http://www.farnell.com/datasheets/2310790.pdf; Mounting: SMD
footprint RESC1608N (Chip Resistor, Body 1.6x0.8mm, IPC Medium Density)
pins: 1, 2
1 alternate drawing of the same symbol

## CRCW060325K5FKEA.
designator R?, comment 25K5  (mechanical)
RES 25K5, ±1%, 100mW, 75V, 0603 [1608 Metric], Thick Film; Manufacturer: VISHAY; Manufacturer Part Number: CRCW060325K5FKEA.; Temperature Coefficient: ± 100ppm/K; Value: 25K5; Supplier 1: Farnell; Supplier Part Number 1: 2138447; Tolerance: ± 1%; Power: 100mW; Voltage: 75V; Package: 0603 [1608 Metric]; Part Type: Thick Film; ComponentLink1Description: Datasheet; ComponentLink1URL: http://www.farnell.com/datasheets/2310790.pdf; Mounting: SMD
footprint RESC1608N (Chip Resistor, Body 1.6x0.8mm, IPC Medium Density)
pins: 1, 2
1 alternate drawing of the same symbol

## CRCW060339K0FKEA
designator R?, comment 39K
RES 39K, ± 1%, 100 mW, 0603 [1608 Metric], Thick Film; Manufacturer: VISHAY; Manufacturer Part Number: CRCW060339K0FKEA; Power: 100mW; Voltage: 75V; Temperature Coefficient: ± 100ppm/K; Value: 39K; Supplier 1: Farnell; Supplier Part Number 1: 1469804; Tolerance: ± 1%; Package: 0603 [1608 Metric]; Part Type: Thick Film; ComponentLink1Description: Datasheet; ComponentLink1URL: http://www.farnell.com/datasheets/2310790.pdf; Mounting: SMD
footprint RESC1608N (Chip Resistor, Body 1.6x0.8mm, IPC Medium Density)
pins: 1, 2
1 alternate drawing of the same symbol

## CRCW060343K0FKEA
designator R?, comment 43K
RES 43K, ±1%, 100mW, 75V, 0603 [1608 Metric], Thick Film; Manufacturer: VISHAY; Manufacturer Part Number: CRCW060343K0FKEA; Temperature Coefficient: ± 100ppm/K; Value: 43K; Supplier 1: Farnell; Supplier Part Number 1: 1469809; Tollerance: ± 1%; Power: 100mW; Voltage: 75V; Package: 0603 [1608 Metric]; Part Type: Thick Film; ComponentLink1Description: Datasheet; ComponentLink1URL: http://www.farnell.com/datasheets/2310790.pdf; Mounting: SMD
footprint RESC1608N (Chip Resistor, Body 1.6x0.8mm, IPC Medium Density)
pins: 1, 2
1 alternate drawing of the same symbol

## CRCW060348K7FKEA.
designator R?, comment 48K7
RES 48K7, ±1%, 100mW, 75V, 0603 [1608 Metric], Thick Film; Manufacturer: VISHAY; Manufacturer Part Number: CRCW060348K7FKEA.; Temperature Coefficient: ± 100ppm/K; Value: 48K7; Supplier 1: Farnell; Supplier Part Number 1: 2138469; Tolerance: ± 1%; Power: 100mW; Voltage: 75V; Package: 0603 [1608 Metric]; Part Type: Thick Film; ComponentLink1Description: Datasheet; ComponentLink1URL: http://www.farnell.com/datasheets/2310790.pdf; Mounting: SMD
footprint RESC1608N (Chip Resistor, Body 1.6x0.8mm, IPC Medium Density)
pins: 1, 2
1 alternate drawing of the same symbol

## CRCW060390K9FKEA.
designator R?, comment 90K9
RES 90K9, ±1%, 100mW, 75V, 0603 [1608 Metric], Thick Film; Manufacturer: VISHAY; Manufacturer Part Number: CRCW060390K9FKEA.; Temperature Coefficient: ± 100ppm/K; Value: 90K9; Supplier 1: Farnell; Supplier Part Number 1: 2138493; Tolerance: ± 1%; Power: 100mW; Voltage: 75V; Package: 0603 [1608 Metric]; Part Type: Thick Film; ComponentLink1Description: Datasheet; ComponentLink1URL: http://www.farnell.com/datasheets/2310790.pdf; Mounting: SMD
footprint RESC1608N (Chip Resistor, Body 1.6x0.8mm, IPC Medium Density)
pins: 1, 2
1 alternate drawing of the same symbol

## CRCW080515K4FKEA
designator R?, comment 15K4
RES 15K4, ±1%, 125mW, 150V, 0805 [2012 Metric], Thick Film; Manufacturer: VISHAY; Manufacturer Part Number: CRCW080515K4FKEA; Temperature Coefficient: ± 100ppm/K; Value: 15K4; Supplier 1: Farnell; Supplier Part Number 1: 1652921; Tolerance: ± 1%; Power: 125mW; Voltage: 150V; Package: 0805 [2012 Metric]; Part Type: Thick Film; ComponentLink1Description: Datasheet; ComponentLink1URL: http://www.farnell.com/datasheets/2310790.pdf; Mounting: SMD
footprint RESC2012N (Chip Resistor, Body 2.0x1.3mm, IPC Medium Density)
pins: 1, 2
1 alternate drawing of the same symbol

## CRCW080521K5FKEA
designator R?, comment 21K5
RES 21K5 , ±1%, 125mW, 0805 [2012 Metric], Thick Film; Manufacturer: VISHAY; Manufacturer Part Number: CRCW080521K5FKEA; Voltage: 150V; Temperature Coefficient: ± 100ppm/K; Value: 21K5; Supplier 1: Farnell; Supplier Part Number 1: 1652957; Tolerance: ± 1%; Power: 125mW; Package: 0805 [2012 Metric]; Part Type: Thick Film; ComponentLink1Description: Datasheet; ComponentLink1URL: http://www.farnell.com/datasheets/2310790.pdf; Mounting: SMD
footprint RESC2012N (Chip Resistor, Body 2.0x1.3mm, IPC Medium Density)
pins: 1, 2
1 alternate drawing of the same symbol

## CRCW0603102RFKEA
designator R?, comment 102R
RES 102R, ±1%, 100mW, 75V, 0603 [1608 Metric], Thick Film; Manufacturer: VISHAY; Manufacturer Part Number: CRCW0603102RFKEA; Temperature Coefficient: ± 100ppm/K; Value: 102R; Supplier 1: Farnell; Supplier Part Number 1: 2141277; Tolerance: ± 1%; Power: 100mW; Voltage: 75V; Package: 0603 [1608 Metric]; Part Type: Thick Film; ComponentLink1Description: Datasheet; ComponentLink1URL: http://www.farnell.com/datasheets/2310790.pdf; Mounting: SMD
footprint RESC1608N (Chip Resistor, Body 1.6x0.8mm, IPC Medium Density)
pins: 1, 2
1 alternate drawing of the same symbol

## CRCW0603160RFKEA.
designator R?, comment 160R
RES 160R, ±1%, 100mW, 0603 [1608 Metric], Thick Film; Manufacturer: VISHAY; Manufacturer Part Number: CRCW0603160RFKEA.; Voltage: 75V; Temperature Coefficient: ± 100ppm/K; Value: 160R; Supplier 1: Farnell; Supplier Part Number 1: 2141297; Tolerance: ± 1%; Power: 100mW; Package: 0603 [1608 Metric]; Part Type: Thick Film; ComponentLink1Description: Datasheet; ComponentLink1URL: http://www.farnell.com/datasheets/2310790.pdf; Mounting: SMD
footprint RESC1608N (Chip Resistor, Body 1.6x0.8mm, IPC Medium Density)
pins: 1, 2
1 alternate drawing of the same symbol

## CRCW0603270RFKEA.
designator R?, comment 270R
RES 270R, ±1%, 100mW, 75V, 0603 [1608 Metric], Thick Film; Manufacturer: VISHAY; Manufacturer Part Number: CRCW0603270RFKEA.; Temperature Coefficient: ± 100ppm/K; Value: 270R; Supplier 1: Farnell; Supplier Part Number 1: 2141320; Tolerance: ± 1%; Power: 100mW; Voltage: 75V; Package: 0603 [1608 Metric]; Part Type: Thick Film; ComponentLink1Description: Datasheet; ComponentLink1URL: http://www.farnell.com/datasheets/2310790.pdf; Mounting: SMD
footprint RESC1608N (Chip Resistor, Body 1.6x0.8mm, IPC Medium Density)
pins: 1, 2
1 alternate drawing of the same symbol

## CRCW0603332RFKEA
designator R?, comment 332R
RES 332R, ±1%, 100mW, 75V, 0603 [1608 Metric], Thick Film; Manufacturer: VISHAY; Manufacturer Part Number: CRCW0603332RFKEA; Temperature Coefficient: ± 100ppm/K; Value: 332R; Supplier 1: Farnell; Supplier Part Number 1: 1652872; Tolerance: ± 1%; Power: 100mW; Voltage: 75V; Package: 0603 [1608 Metric]; Part Type: Thick Film; ComponentLink1Description: Datasheet; ComponentLink1URL: http://www.farnell.com/datasheets/2310790.pdf; Mounting: SMD
footprint RESC1608N (Chip Resistor, Body 1.6x0.8mm, IPC Medium Density)
pins: 1, 2
1 alternate drawing of the same symbol

## CRCW0603620RFKEA.
designator R?, comment 620R
RES 620R, ±1%, 100mW, 75V, 0603 [1608 Metric], Thick Film; Manufacturer: VISHAY; Manufacturer Part Number: CRCW0603620RFKEA; Temperature Coefficient: ± 100ppm/K; Value: 620R; Supplier 1: Farnell; Supplier Part Number 1: 2141352; Tolerance: ± 1%; Power: 100mW; Voltage: 75V; Package: 0603 [1608 Metric]; Part Type: Thick Film; ComponentLink1Description: Datasheet; ComponentLink1URL: http://www.farnell.com/datasheets/2310790.pdf; Mounting: SMD
footprint RESC1608N (Chip Resistor, Body 1.6x0.8mm, IPC Medium Density)
pins: 1, 2
1 alternate drawing of the same symbol

## CRCW0603634RFKEA.
designator R?, comment 634R
RES 634R, ±1%, 100mW, 75V, 0603 [1608 Metric], Thick Film; Manufacturer: VISHAY; Manufacturer Part Number: CRCW0603634RFKEA.; Temperature Coefficient: ± 100ppm/K; Value: 634R; Supplier 1: Farnell; Supplier Part Number 1: 2141353; Tolerance: ± 1%; Power: 100mW; Voltage: 75V; Package: 0603 [1608 Metric]; Part Type: Thick Film; ComponentLink1Description: Datasheet; ComponentLink1URL: http://www.farnell.com/datasheets/2310790.pdf; Mounting: SMD
footprint RESC1608N (Chip Resistor, Body 1.6x0.8mm, IPC Medium Density)
pins: 1, 2
1 alternate drawing of the same symbol

## CRCW0805150RFKEA
designator R?, comment 150R
RES 150R, ±1%, 125mW, 150V, 0805 [2012 Metric], Thick Film; Manufacturer: VISHAY; Manufacturer Part Number: CRCW0805150RFKEA; Temperature Coefficient: ± 100ppm/K; Value: 150R; Supplier 1: Farnell; Supplier Part Number 1: 1469877; Tolerance: ± 1%; Power: 125mW; Voltage: 150V; Package: 0805 [2012 Metric]; Part Type: Thick Film; ComponentLink1Description: Datasheet; ComponentLink1URL: http://www.farnell.com/datasheets/2310790.pdf; Mounting: SMD
footprint RESC2012N (Chip Resistor, Body 2.0x1.3mm, IPC Medium Density)
pins: 1, 2
1 alternate drawing of the same symbol

## CRCW0805220RFKEA
designator R?, comment 220R
RES 220R, ±1%, 125mW, 150V, 0805 [2012 Metric], Thick Film; Manufacturer: VISHAY; Manufacturer Part Number: CRCW0805220RFKEA; Temperature Coefficient: ± 100ppm/K; Value: 220R; Supplier 1: Farnell; Supplier Part Number 1: 1469899; Tolerance: ± 1%; Power: 125mW; Voltage: 150V; Package: 0805 [2012 Metric]; Part Type: Thick Film; ComponentLink1Description: Datasheet; ComponentLink1URL: http://www.farnell.com/datasheets/2310790.pdf; Mounting: SMD
footprint RESC2012N (Chip Resistor, Body 2.0x1.3mm, IPC Medium Density)
pins: 1, 2
1 alternate drawing of the same symbol

## CRCW0805232RFKEA.
designator R?, comment 232R
RES 232R, ±1%, 125mW, 150V, 0805 [2012 Metric], Thick Film; Manufacturer: VISHAY; Manufacturer Part Number: CRCW0805232RFKEA.; Temperature Coefficient: ± 100ppm/K; Value: 232R; Supplier 1: Farnell; Supplier Part Number 1: 2138871; Tollerance: ± 1%; Power: 125mW; Voltage: 150V; Package: 0805 [2012 Metric]; Part Type: Thick Film; ComponentLink1Description: Datasheet; ComponentLink1URL: http://www.farnell.com/datasheets/2310790.pdf; Mounting: SMD
footprint RESC2012N (Chip Resistor, Body 2.0x1.3mm, IPC Medium Density)
pins: 1, 2
1 alternate drawing of the same symbol

## CRCW0805240RFKEA
designator R?, comment 240R
RES 240R, ±1%, 125mW, 150V, 0805 [2012 Metric], Thick Film; Manufacturer: VISHAY; Manufacturer Part Number: CRCW0805240RFKEA; Temperature Coefficient: ± 100ppm/K; Value: 240R; Supplier 1: Farnell; Supplier Part Number 1: 1652963; Tolerance: ± 1%; Power: 125mW; Voltage: 150V; Package: 0805 [2012 Metric]; Part Type: Thick Film; ComponentLink1Description: Datasheet; ComponentLink1URL: http://www.farnell.com/datasheets/2310790.pdf; Mounting: SMD
footprint RESC2012N (Chip Resistor, Body 2.0x1.3mm, IPC Medium Density)
pins: 1, 2
1 alternate drawing of the same symbol

## CRCW0805270RFKEA
designator R?, comment 270R
RES 270R, ±1%, 125mW, 150V, 0805 [2012 Metric], Thick Film; Manufacturer: VISHAY; Manufacturer Part Number: CRCW0805270RFKEA; Temperature Coefficient: ± 100ppm/K; Value: 270R; Supplier 1: Farnell; Supplier Part Number 1: 1652970; Tolerance: ± 1%; Power: 125mW; Voltage: 150V; Package: 0805 [2012 Metric]; Part Type: Thick Film; ComponentLink1Description: Datasheet; ComponentLink1URL: http://www.farnell.com/datasheets/2310790.pdf; Mounting: SMD
footprint RESC2012N (Chip Resistor, Body 2.0x1.3mm, IPC Medium Density)
pins: 1, 2
1 alternate drawing of the same symbol

## CRCW0805300RFKEA.
designator R?, comment 300R
RES 300R, ±1%, 125mW, 150V, 0805 [2012 Metric], Thick Film; Manufacturer: Vishay; Manufacturer Part Number: CRCW0805300RFKEA.; Temperature Coefficient: ± 100ppm/K; Value: 300R; Supplier 1: Farnell; Supplier Part Number 1: 2138881; Tolerance: ± 1%; Power: 125mW; Voltage: 150V; Package: 0805 [2012 Metric]; Part Type: Thick Film; ComponentLink1Description: Datasheet; ComponentLink1URL: http://www.farnell.com/datasheets/2310790.pdf; Mounting: SMD
footprint RESC2012N (Chip Resistor, Body 2.0x1.3mm, IPC Medium Density)
pins: 1, 2
1 alternate drawing of the same symbol

## CRCW0805390RFKEA
designator R?, comment 390R
RES 390R, ±1%, 125mW, 0805 [2012 Metric], Thick Film; Manufacturer: VISHAY; Manufacturer Part Number: CRCW0805390RFKEA; Voltage: 150V; Temperature Coefficient: ± 100ppm/K; Value: 390R; Supplier 1: Farnell; Supplier Part Number 1: 1652991; Tolerance: ± 1%; Power: 125mW; Package: 0805 [2012 Metric]; Part Type: Thick Film; ComponentLink1Description: Datasheet; ComponentLink1URL: http://www.farnell.com/datasheets/2310790.pdf; Mounting: SMD
footprint RESC2012N (Chip Resistor, Body 2.0x1.3mm, IPC Medium Density)
pins: 1, 2
1 alternate drawing of the same symbol

## CRCW0805680RFKEA
designator R?, comment 680R
RES 680R, ±1%, 125mW, 150V, 0805 [2012 Metric], Thick Film; Manufacturer: VISHAY; Manufacturer Part Number: CRCW0805680RFKEA; Temperature Coefficient: ± 100ppm/K; Value: 680R; Supplier 1: Farnell; Supplier Part Number 1: 1653028; Tolerance: ± 1%; Power: 125mW; Voltage: 150V; Package: 0805 [2012 Metric]; Part Type: Thick Film; ComponentLink1Description: Datasheet; ComponentLink1URL: http://www.farnell.com/datasheets/2310790.pdf; Mounting: SMD
footprint RESC2012N (Chip Resistor, Body 2.0x1.3mm, IPC Medium Density)
pins: 1, 2
1 alternate drawing of the same symbol

## CRCW0805750RFKEA
designator R?, comment 750R
RES 750R, ±1%, 125mW, 150V, 0805 [2012 Metric], Thick Film; Manufacturer: VISHAY; Manufacturer Part Number: CRCW0805750RFKEA; Temperature Coefficient: ± 100ppm/K; Value: 750R; Supplier 1: Farnell; Supplier Part Number 1: 1469956; Tolerance: ± 1%; Power: 125mW; Voltage: 150V; Package: 0805 [2012 Metric]; Part Type: Thick Film; ComponentLink1Description: Datasheet; ComponentLink1URL: http://www.farnell.com/datasheets/2310790.pdf; Mounting: SMD
footprint RESC2012N (Chip Resistor, Body 2.0x1.3mm, IPC Medium Density)
pins: 1, 2
1 alternate drawing of the same symbol

## CRCW0805806KFKEA.
designator R?, comment 806K
RES 806K, ±1%, 125mW, 150V, 0805 [2012 Metric], Thick Film; Manufacturer: VISHAY; Manufacturer Part Number: CRCW0805806KFKEA.; Temperature Coefficient: ± 100ppm/K; Value: 806K; Supplier 1: Farnell; Supplier Part Number 1: 2139111; Tollerance: ± 1%; Power: 125mW; Voltage: 150V; Package: 0805 [2012 Metric]; Part Type: Thick Film; ComponentLink1Description: Datasheet; ComponentLink1URL: https://lt.farnell.com/vishay/crcw0805806kfkea/res-806k-1-0-125w-0805-thick-film/dp/2139111?st=res%20806k,%20±1%25,%20125mw,%20150v,%200805%20[2012%20metric],%20thick%20film; Mounting: SMD
footprint RESC2012N (Chip Resistor, Body 2.0x1.3mm, IPC Medium Density)
pins: 1, 2
1 alternate drawing of the same symbol

## CRCW0805820RFKEA
designator R?, comment 820R
RES 820R, ±1%, 125mW, 150V, 0805 [2012 Metric], Thick Film; Manufacturer: VISHAY; Manufacturer Part Number: CRCW0805820RFKEA; Temperature Coefficient: ± 100ppm/K; Value: 820R; Supplier 1: Farnell; Supplier Part Number 1: 2138915; Tolerance: ± 1%; Power: 125mW; Voltage: 150V; Package: 0805 [2012 Metric]; Part Type: Thick Film; ComponentLink1Description: Datasheet; ComponentLink1URL: http://www.farnell.com/datasheets/2310790.pdf; Mounting: SMD
footprint RESC2012N (Chip Resistor, Body 2.0x1.3mm, IPC Medium Density)
pins: 1, 2
1 alternate drawing of the same symbol

## CRCW1206220RFKEAHP
designator R?, comment 220R
RES 220R, ±1%, 750mW, 200V, 1206 [3216 Metric], Thick Film; Manufacturer: VISHAY; Manufacturer Part Number: CRCW1206220RFKEAHP; Temperature Coefficient: ± 100ppm/K; Value: 220R; Supplier 1: Farnell; Supplier Part Number 1: 1739004; Tolerance: ± 1%; Power: 750mW; Voltage: 200V; Package: 1206 [3216 Metric]; Part Type: Thick Film; ComponentLink1Description: Datasheet; ComponentLink1URL: http://www.farnell.com/datasheets/2339608.pdf; Mounting: SMD
footprint RESC3216N (Chip Resistor, Body 3.2x1.6mm, IPC Medium Density)
pins: 1, 2
1 alternate drawing of the same symbol

## CRCW1206270RFKEA
designator R?, comment 270R
RES 270R, ±1%, 200mW, 200V, 1206 [3216 Metric], Thick Film; Manufacturer: VISHAY; Manufacturer Part Number: CRCW1206270RFKEA; Power: 250mW; Temperature Coefficient: ± 100ppm/K; Value: 270R; Supplier 1: Farnell; Supplier Part Number 1: 1470003; Tolerance: ± 1%; Voltage: 200V; Package: 1206 [3216 Metric]; Part Type: Thick Film; ComponentLink1Description: Datasheet; ComponentLink1URL: http://www.farnell.com/datasheets/2310790.pdf; Mounting: SMD
footprint RESC3216N (Chip Resistor, Body 3.2x1.6mm, IPC Medium Density)
pins: 1, 2
1 alternate drawing of the same symbol

## CRCW1206680RFKEA.
designator R?, comment 680R
RES 680R, ±1%, 250mW, 200V, 1206 [3216 Metric], Thick Film; Manufacturer: VISHAY; Manufacturer Part Number: CRCW1206680RFKEA.; Temperature Coefficient: ± 100ppm/K; Value: 680R; Supplier 1: Farnell; Supplier Part Number 1: 2139422; Tolerance: ± 1%; Power: 250mW; Voltage: 200V; Package: 1206 [3216 Metric]; Part Type: Thick Film; ComponentLink1Description: Datasheet; ComponentLink1URL: http://www.farnell.com/datasheets/2310790.pdf; Mounting: SMD
footprint RESC3216N (Chip Resistor, Body 3.2x1.6mm, IPC Medium Density)
pins: 1, 2
1 alternate drawing of the same symbol